# Altium schematic symbol library TPS65135.SchLib: 1 symbol
Pins are listed as number, name and electrical type; pins without a type are passive.

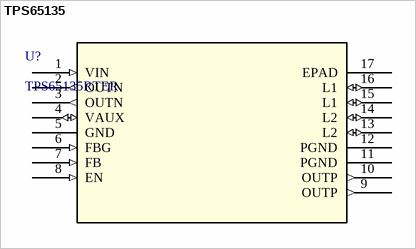
[diagram p0: symbol TPS65135]

## TPS65135
designator U?, comment TPS65135RTER
Single-Inductor,Multiple-Output(SIMO)Regulator; Vendor: Texas Instruments; PACKAGE_DESIGNATOR: RTE; PIN_COUNT: 16; FAMILY_NAME: LCD/OLED DISPLAY BIAS SOLUTIONS; INDUSTRY_STD_PKG_TYPE: WQFN; Manufacturer_Part_Number: TPS65135RTER; GENERIC_PART_NUMBER: TPS65135; Datasheet_URL: http://www.ti.com/lit/gpn/TPS65135; Manufacturer: Texas Instruments; Copyright: Copyright (C) 2018 Accelerated Designs. All rights reserved; RefDes: RefDes; Type: Type; ComponentLink1Description: Product Page; ComponentLink1URL: https://www.ti.com/product/TPS65133
footprint RTE16_1P7X1P7
pins: 1 VIN (in), 2 OUTN (out), 3 OUTN (out), 4 VAUX (io), 5 GND (power), 6 FBG (in), 7 FB (in), 8 EN (in), 9 OUTP (out), 10 OUTP (out), 11 PGND (power), 12 PGND (power), 13 L2 (io), 14 L2 (io), 15 L1 (io), 16 L1 (io), 17 EPAD